# Altium footprint library Relays.PcbLib: 1 footprints
Each footprint in its own frame and in the unit in brackets; x right, y up, seen from the top. Pads: shape width x height; smd on the part's side, far side on the other; paste and mask are expansions set on the pad; w line width, h text height; cw(c..) or ccw(c..) is an arc to the next point about the centre after c.
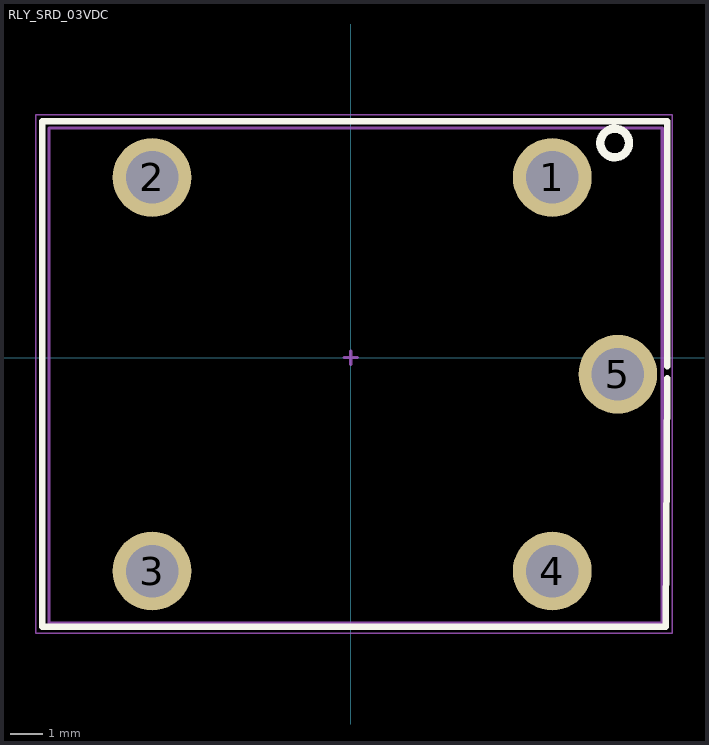
[diagram p0: the footprint, top view; thin cyan lines are the x and y axes]

## RLY_SRD_03VDC [mm]
pads (5):
  round 2.4 hole 1.6 paste-2539.97 mask+0.05: 1(6.143,5.492) 2(-6.057,5.492) 3(-6.057,-6.508) 4(6.143,-6.508) 5(8.143,-0.508)
Top Overlay:
  circle w0.254: c8.047,6.542 r0.437
  lines w0.2: 9.652,-0.627 9.6,-8.2 -9.398,-8.2 -9.398,7.2 9.652,7.2 9.652,-0.27
Top Component Center:
  lines w0.05: -9.6,-8.4 9.8,-8.4 9.8,7.4 -9.6,7.4 -9.6,-8.4
  lines w0.1: 0,-0.2 0,0 ; 0,0.2 0,0 ; 0.2,0 0,0
Top Assembly:
  lines w0.1: -9.2,-8.1 9.5,-8.1 9.5,7 -9.2,7 -9.2,-8.1
Top Courtyard (Mech15):
  lines w0.1: -0.2,0 0,0
3D body "Relay - SRD-03VDC-SL-C.stp": height 14.94, standoff -3.61, extent -9.247,-8.144 9.447,6.944